# EAGLE library part FZE1066 (library FZE1066)
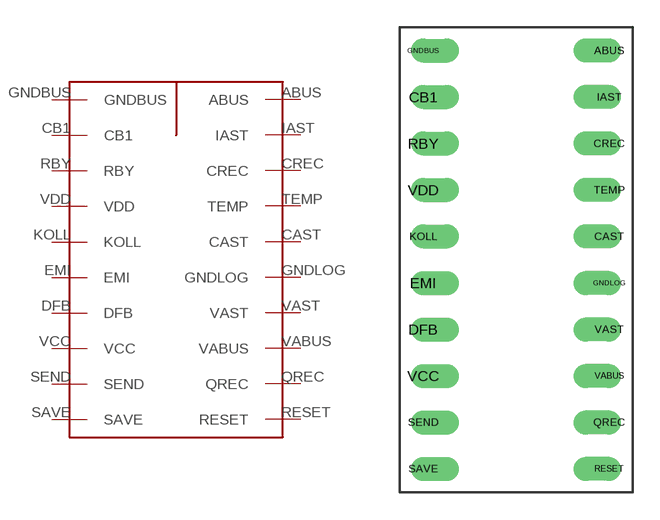
[diagram p0: symbol with the pads of FZE1066; footprint FZE1066]

Designator prefix FZE1066

## FZE1066  [FZE1066]
ABUS  ABUS  pwr
CAST  CAST  pas
CB1  CB1  pas
CREC  CREC  in
DFB  DFB  out
EMI  EMI  oc
GNDBUS  GNDBUS  sup
GNDLOG  GNDLOG  sup
IAST  IAST  in
KOLL  KOLL  oc
QREC  QREC  out
RBY  RBY  pas
RESET  RESET  pwr
SAVE  SAVE  pwr
SEND  SEND  in
TEMP  TEMP  out
VABUS  VABUS  pwr
VAST  VAST  out
VCC  VCC  pwr
VDD  VDD  pwr

## Footprint FZE1066 (pad centres in mm)
drill 0.8 offset: ABUS 5.08,11.43; CAST 5.08,1.27; CB1 -5.08,8.89; CREC 5.08,6.35; DFB -5.08,-3.81; EMI -5.08,-1.27; GNDBUS -5.08,11.43; GNDLOG 5.08,-1.27; IAST 5.08,8.89; KOLL -5.08,1.27; QREC 5.08,-8.89; RBY -5.08,6.35; RESET 5.08,-11.43; SAVE -5.08,-11.43; SEND -5.08,-8.89; TEMP 5.08,3.81; VABUS 5.08,-6.35; VAST 5.08,-3.81; VCC -5.08,-6.35; VDD -5.08,3.81